# EAGLE library part PCA9536DP (library fxkr_pca9653)
NXP PCA953DP IC I/O EXPANDER I2C 4B 8TSSOP DP = TSSOP8 Version https://www.digikey.de/product-detail/en/PCA9536DP,118/568-1836-1-ND/789968 http://www.nxp.com/documents/data_sheet/PCA9536.pdf
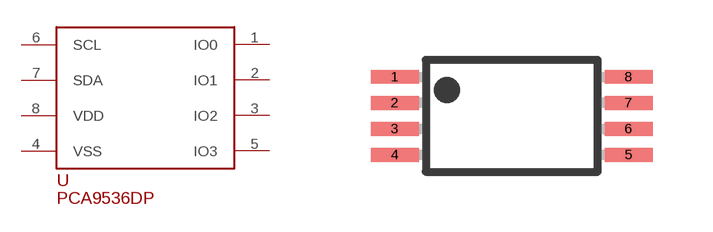
[diagram p0: symbol with the pads of TSSOP8; footprint TSSOP8]

Designator prefix -

## PCA9536DP  [TSSOP8]
1  IO0
2  IO1
3  IO2
4  VSS  pwr
5  IO3
6  SCL
7  SDA
8  VDD  pwr

## Footprint TSSOP8 (pad centres in mm)
smd 1.2 x 0.35: 1 -2.925,0.975; 2 -2.925,0.325; 3 -2.925,-0.325; 4 -2.925,-0.975; 5 2.925,-0.975; 6 2.925,-0.325; 7 2.925,0.325; 8 2.925,0.975